# EAGLE library part ADS1292 (library Neel)
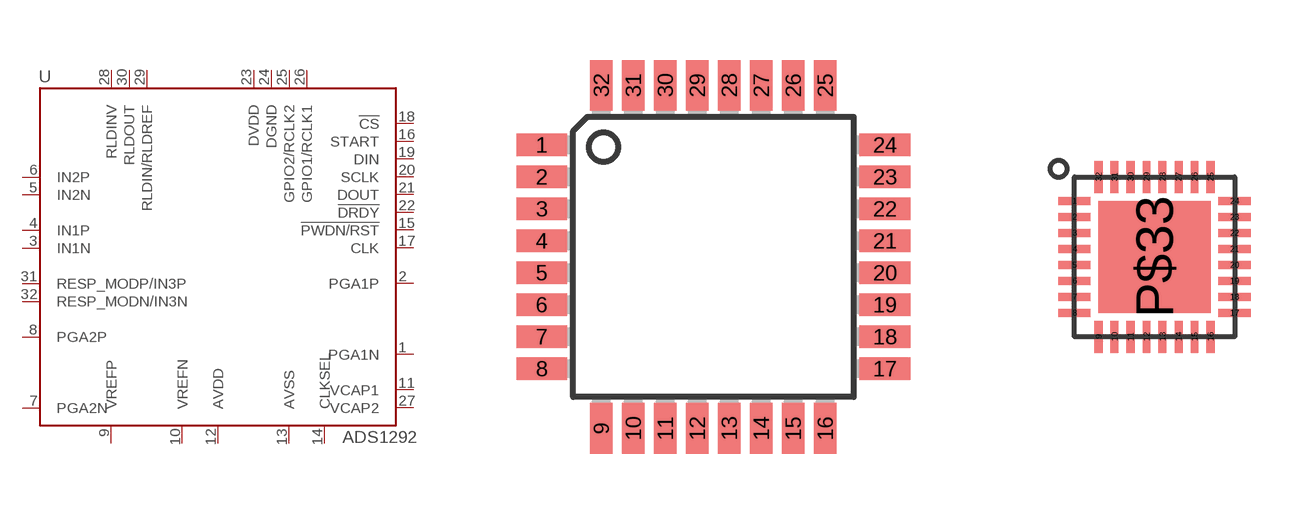
[diagram p73: symbol with the pads of TQFP-32; footprints TQFP-32, QFN32-4X4]

Designator prefix -

## ADS1292TQFP-32  [TQFP-32]
1  PGA1N
2  PGA1P
3  IN1N
4  IN1P
5  IN2N
6  IN2P
7  PGA2N
8  PGA2P
9  VREFP
10  VREFN
11  VCAP1
12  AVDD
13  AVSS
14  CLKSEL
15  !PWDN/RST
16  START
17  CLK
18  !CS
19  DIN
20  SCLK
21  DOUT
22  !DRDY
23  DVDD
24  DGND
25  GPIO2/RCLK2
26  GPIO1/RCLK1
27  VCAP2
28  RLDINV
29  RLDIN/RLDREF
30  RLDOUT
31  RESP_MODP/IN3P
32  RESP_MODN/IN3N

## ADS1292QFN32  [QFN32-4X4]
1  PGA1N
2  PGA1P
3  IN1N
4  IN1P
5  IN2N
6  IN2P
7  PGA2N
8  PGA2P
9  VREFP
10  VREFN
11  VCAP1
12  AVDD
13  AVSS
14  CLKSEL
15  !PWDN/RST
16  START
17  CLK
18  !CS
19  DIN
20  SCLK
21  DOUT
22  !DRDY
23  DVDD
24  DGND
25  GPIO2/RCLK2
26  GPIO1/RCLK1
27  VCAP2
28  RLDINV
29  RLDIN/RLDREF
30  RLDOUT
31  RESP_MODP/IN3P
32  RESP_MODN/IN3N
P$33  DGND

## Footprint TQFP-32 (pad centres in mm)
smd 1.27 x 0.559: 1 -4.293,2.8; 2 -4.293,2; 3 -4.293,1.2; 4 -4.293,0.4; 5 -4.293,-0.4; 6 -4.293,-1.2; 7 -4.293,-2; 8 -4.293,-2.8; 17 4.293,-2.8; 18 4.293,-2; 19 4.293,-1.2; 20 4.293,-0.4; 21 4.293,0.4; 22 4.293,1.2; 23 4.293,2; 24 4.293,2.8
smd 0.559 x 1.27: 9 -2.8,-4.293; 10 -2,-4.293; 11 -1.2,-4.293; 12 -0.4,-4.293; 13 0.4,-4.293; 14 1.2,-4.293; 15 2,-4.293; 16 2.8,-4.293; 25 2.8,4.293; 26 2,4.293; 27 1.2,4.293; 28 0.4,4.293; 29 -0.4,4.293; 30 -1.2,4.293; 31 -2,4.293; 32 -2.8,4.293

## Footprint QFN32-4X4 (pad centres in mm)
smd 0.8 x 0.2: 1 -2,1.4; 2 -2,1; 3 -2,0.6; 4 -2,0.2; 5 -2,-0.2; 6 -2,-0.6; 7 -2,-1; 8 -2,-1.4; 17 2,-1.4; 18 2,-1; 19 2,-0.6; 20 2,-0.2; 21 2,0.2; 22 2,0.6; 23 2,1; 24 2,1.4
smd 0.2 x 0.8: 9 -1.4,-2; 10 -1,-2; 11 -0.6,-2; 12 -0.2,-2; 13 0.2,-2; 14 0.6,-2; 15 1,-2; 16 1.4,-2; 25 1.4,2; 26 1,2; 27 0.6,2; 28 0.2,2; 29 -0.2,2; 30 -0.6,2; 31 -1,2; 32 -1.4,2
smd 2.8 x 2.8: P$33 0,0